# Altium footprint library ARM_Libary_USB_to_RS232.PcbLib: 24 footprints (part 1 of 2)
Each footprint in its own frame and in the unit in brackets; x right, y up, seen from the top. Pads: shape width x height; smd on the part's side, far side on the other; paste and mask are expansions set on the pad; w line width, h text height; cw(c..) or ccw(c..) is an arc to the next point about the centre after c.
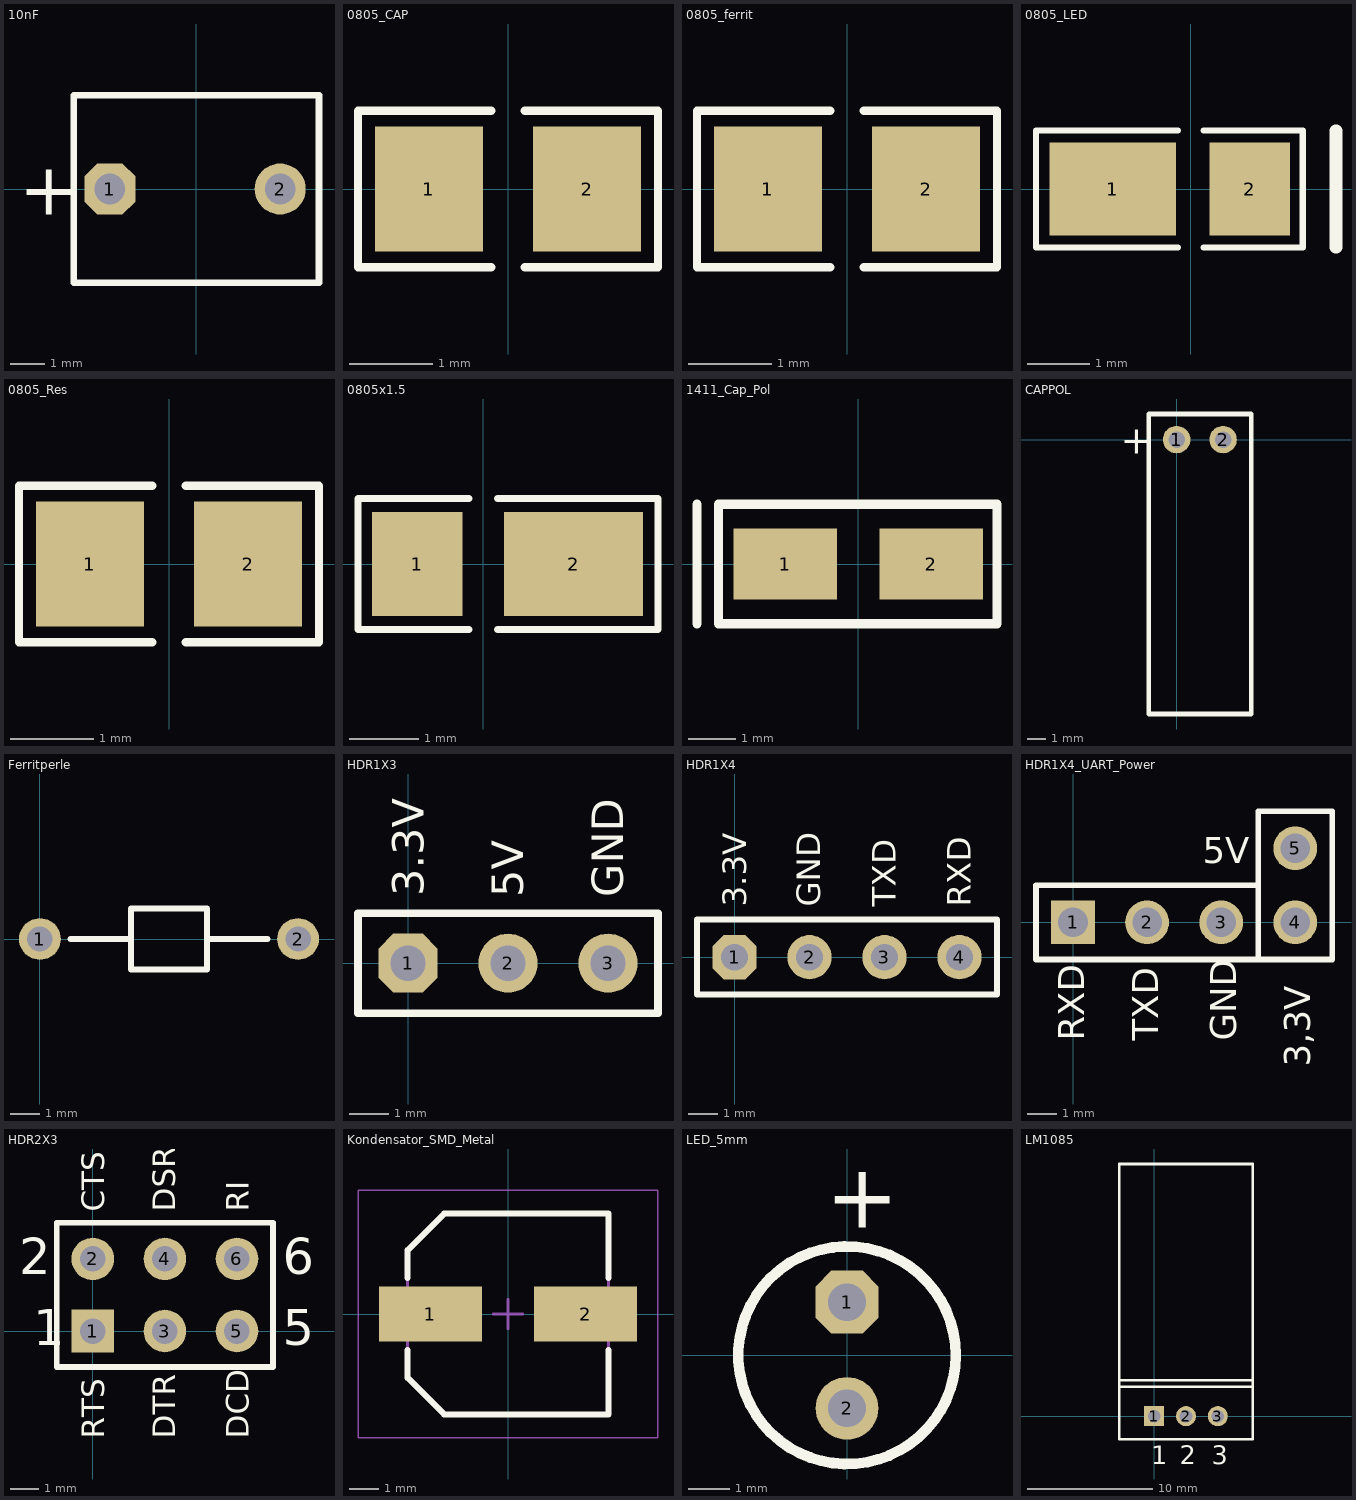
[diagram p0: the footprints below, top view; thin cyan lines are the x and y axes]

## 10nF [mm] "capacitor"
height 7
pads (2):
  oct 1.5x1.5 hole 0.9: 1(-2.54,0)
  round 1.5 hole 0.9: 2(2.46,0)
Top Overlay:
  lines w0.2: -3.6,-2.75 3.6,-2.75 3.6,2.75 -3.6,2.75 -3.6,-2.75
  text "+" at -5.207,-0.762 h1.52

## 0805_CAP [mm]
pads (2):
  rect 1.3x1.5 smd: 1(-0.95,0) 2(0.95,0)
Top Overlay:
  lines w0.1: -0.203,-0.94 -1.803,-0.94 -1.803,0.94 -0.203,0.94 ; 0.203,-0.94 1.803,-0.94 1.803,0.94 0.203,0.94

## 0805_ferrit [mm]
pads (2):
  rect 1.3x1.5 smd: 1(-0.95,0) 2(0.95,0)
Top Overlay:
  lines w0.1: -0.203,-0.94 -1.803,-0.94 -1.803,0.94 -0.203,0.94 ; 0.203,-0.94 1.803,-0.94 1.803,0.94 0.203,0.94

## 0805_LED [mm]
pads (2):
  rect 2.035x1.5 smd: 1(-1.255,0)
  rect 1.3x1.5 smd: 2(0.95,0)
Top Overlay:
  lines w0.1: -0.203,-0.94 -2.489,-0.94 -2.489,0.94 -0.203,0.94 ; 0.203,-0.94 1.803,-0.94 1.803,0.94 0.203,0.94
  lines w0.203: 2.337,-0.94 2.337,0.94

## 0805_Res [mm]
pads (2):
  rect 1.3x1.5 smd: 1(-0.95,0) 2(0.95,0)
Top Overlay:
  lines w0.1: -0.203,-0.94 -1.803,-0.94 -1.803,0.94 -0.203,0.94 ; 0.203,-0.94 1.803,-0.94 1.803,0.94 0.203,0.94

## 0805x1.5 [mm] "0805 Footprint for non polarized Capacitors"
pads (2):
  rect 1.3x1.5 smd: 1(-0.95,0)
  rect 2x1.5 smd: 2(1.3,0)
Top Overlay:
  lines w0.1: -0.203,-0.94 -1.803,-0.94 -1.803,0.94 -0.203,0.94 ; 0.203,-0.94 2.515,-0.94 2.515,0.94 0.203,0.94

## 1411_Cap_Pol [mm]
pads (2):
  rect 2.2x1.5 smd: 1(-1.55,0) 2(1.55,0)
Top Overlay:
  lines w0.2: -3.429,-1.27 -3.429,1.27 ; -2.972,-1.27 -2.972,1.27 -2.469,1.27 -1.919,1.27 -1.645,1.27 1.264,1.27 1.983,1.27 2.946,1.27 2.946,-1.27 1.187,-1.27 -1.213,-1.27 -2.972,-1.27

## CAPPOL [mm] "Cap Pol"
height 5
pads (2):
  round 1.5 hole 0.9: 1(0,0) 2(2.54,0)
Top Overlay:
  lines w0.254: -1.524,-15 -1.524,1.397 4.07,1.397 4.07,-15 -1.524,-15
  text "+" at -3.048,-0.762 h1.52

## Ferritperle [mm] "Ferritperle"
height 3
pads (2):
  round 1.4 hole 0.85: 1(0,0) 2(8.636,0)
Top Overlay:
  lines w0.2: 1.016,0 3.048,0 ; 5.588,0 7.62,0 ; 3.048,-1.016 5.588,-1.016 5.588,1.016 3.048,1.016 3.048,-1.016

## HDR1X3 [mm] "Connector; Header; 3 Position"
pads (3):
  oct 1.5x1.5 hole 0.9: 1(0,0)
  round 1.5 hole 0.9: 2(2.54,0) 3(5.08,0)
Top Overlay:
  lines w0.2: -1.27,-1.27 -1.27,1.27 6.35,1.27 6.35,-1.27 -1.27,-1.27
  text "GND" at 5.461,1.676 h0.8
  text "3.3V" at 0.4,1.7 h0.8
  text "5V" at 2.921,1.676 h0.8

## HDR1X4 [mm] "Connector; Header; 4 Position"
pads (4):
  oct 1.5x1.5 hole 0.9: 1(0,0)
  round 1.5 hole 0.9: 2(2.54,0) 3(5.08,0) 4(7.62,0)
Top Overlay:
  lines w0.2: -1.27,-1.27 -1.27,1.27 8.89,1.27 8.89,-1.27 -1.27,-1.27
  text "GND" at 2.9,1.7 h0.8
  text "TXD" at 5.461,1.7 h0.8
  text "RXD" at 8.001,1.7 h0.8
  text "3.3V" at 0.4,1.7 h0.8

## HDR1X4_UART_Power [mm]
pads (5):
  rect 1.5x1.5 hole 1.016: 1(0,0)
  round 1.5 hole 1.016: 2(2.54,0) 3(5.08,0) 4(7.62,0) 5(7.62,2.54)
Top Overlay:
  lines w0.2: 6.35,-1.27 -1.27,-1.27 -1.27,1.27 6.35,1.27 ; 6.35,-1.27 6.35,1.27 ; 6.35,-1.27 8.89,-1.27 8.89,3.81 6.35,3.81 6.35,1.27
  text "5V" at 4.445,2.032 h0.89
  text "3,3V" at 8.128,-4.953 h0.89
  text "GND" at 5.588,-4.064 h0.89
  text "TXD" at 2.921,-4.064 h0.89
  text "RXD" at 0.381,-4.064 h0.89

## HDR2X3 [mm] "Connector; Header; 3x2 Position"
height 2.54
pads (6):
  rect 1.5x1.5 hole 0.9: 1(0,0)
  round 1.5 hole 0.9: 2(0,2.54) 3(2.54,0) 4(2.54,2.54) 5(5.08,0) 6(5.08,2.54)
Top Overlay:
  lines w0.2: 1.482,-1.27 6.35,-1.27 ; 6.35,-1.27 -1.27,-1.27 -1.27,3.81 6.35,3.81 6.35,-1.27
  text "1" at -2.1,-0.5 h1.27
  text "2" at -2.6,2 h1.27
  text "RTS" at 0.4,-3.8 h0.8
  text "DTR" at 2.9,-3.8 h0.8
  text "DCD" at 5.5,-3.8 h0.8
  text "RI" at 5.5,4.2 h0.8
  text "DSR" at 2.9,4.2 h0.8
  text "CTS" at 0.4,4.2 h0.8
  text "5" at 6.7,-0.5 h1.27
  text "6" at 6.7,2 h1.27

## Kondensator_SMD_Metal [mm]
pads (2):
  rect 3.5x1.85 smd: 1(-2.625,0) 2(2.625,0)
Top Overlay:
  lines w0.2: -3.4,-1.225 -3.4,-2.163 -2.163,-3.4 3.4,-3.4 3.4,-1.225 ; -3.4,1.225 -3.4,2.163 -2.163,3.4 3.4,3.4 3.4,1.225
Mechanical 13:
  lines w0.1: -3.4,-2.163 -3.4,2.163 -2.163,3.4 3.4,3.4 3.4,-3.4 -2.163,-3.4 -3.4,-2.163
Mechanical 15:
  lines w0.05: -5.08,-4.191 5.08,-4.191 5.08,4.191 -5.08,4.191 -5.08,-4.191
  lines w0.1: -0.5,0 0.5,0 ; 0,-0.5 0,0.5
3D body: height 6.3, standoff 0, extent -3.15,-3.15 3.125,3.138
3D body: height 2.1, standoff 0, extent -3.4,-3.4 3.4,3.4

## LED_5mm [mm]
height 6
pads (2):
  oct 1.5x1.5 hole 0.9: 1(0,1.27)
  round 1.5 hole 0.9: 2(0,-1.27)
Top Overlay:
  circle w0.254: c0,0 r2.6
  text "+" at -0.508,3.048 h1.52

## LM1085 [mm] "+3,3V Fixspannungsregler"
height 4.5
pads (3):
  rect 1.6x1.6 hole 1: 1(0,0)
  round 1.6 hole 1: 2(2.54,0) 3(5.08,0)
Top Overlay:
  lines w0.2: -2.81,2.35 7.89,2.35 ; -2.81,2.85 7.89,2.85 ; -2.81,-1.85 -2.81,20.15 7.89,20.15 7.89,-1.85 -2.81,-1.85
  text "2" at 2.04,-3.825 h1.5
  text "1" at -0.25,-3.825 h1.5
  text "3" at 4.58,-3.825 h1.5